# Altium schematic symbol library LM5045.SchLib: 1 symbol
Pins are listed as number, name and electrical type; pins without a type are passive.

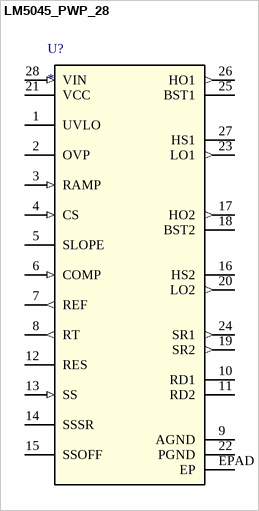
[diagram p0: symbol LM5045_PWP_28]

## LM5045_PWP_28
designator U?
Full-Bridge PWM Controller With Integrated MOSFET Drivers; Manufacturer: Texas Instruments; Manufacturer_Part_Number: lm5045_pwp_28; basePN: LM5045; NSC_PackageReference: MXA28A; DatasheetURL: http://www.ti.com/lit/ds/symlink/lm5045.pdf; Vendor: Texas Instruments; Value: Value; Type: Type; RefDes: RefDes
footprint MXA28A
pins: 1 UVLO, 2 OVP, 3 RAMP (in), 4 CS (in), 5 SLOPE, 6 COMP (in), 7 REF (out), 8 RT (out), 9 AGND (power), 10 RD1, 11 RD2, 12 RES, 13 SS (in), 14 SSSR, 15 SSOFF, 16 HS2, 17 HO2 (out), 18 BST2, 19 SR2 (out), 20 LO2 (out), 21 VCC (power), 22 PGND (power), 23 LO1 (out), 24 SR1 (out), 25 BST1, 26 HO1 (out), 27 HS1, 28 VIN (in), EPAD EP